# Altium footprint library MOLEX SDA-70555-6PIN.PCBLIB: 1 footprints
Each footprint in its own frame and in the unit in brackets; x right, y up, seen from the top. Pads: shape width x height; smd on the part's side, far side on the other; paste and mask are expansions set on the pad; w line width, h text height; cw(c..) or ccw(c..) is an arc to the next point about the centre after c.
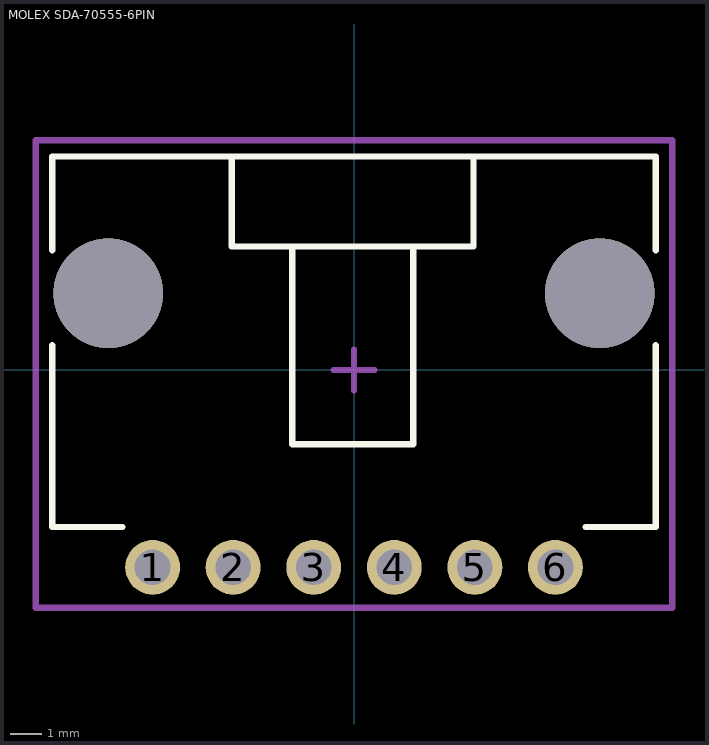
[diagram p0: the footprint, top view; thin cyan lines are the x and y axes]

## MOLEX SDA-70555-6PIN [mm] "SL Right Angle Header W/LAtch & Trip-Pegs 2.54mm Centres"
height 6.99
pads (6):
  round 1.73 hole 1.13: 1(-6.35,-6.223) 2(-3.81,-6.223) 3(-1.27,-6.223) 4(1.27,-6.223) 5(3.81,-6.223) 6(6.35,-6.223)
via 7.75,2.417 diameter 3.45 hole 3.45
via -7.75,2.417 diameter 3.45 hole 3.45
Top Overlay:
  lines w0.2: -9.51,0.777 -9.51,-4.953 -7.31,-4.953 ; -9.51,3.777 -9.51,6.731 9.51,6.731 9.51,3.777 ; -3.85,6.731 -3.85,3.892 3.77,3.892 3.77,6.731 ; -1.945,3.892 -1.945,-2.346 1.865,-2.346 1.865,3.892 ; 7.31,-4.953 9.51,-4.953 9.51,0.777
Mechanical 15:
  lines w0.2: -0.635,0 0.635,0 ; 0,-0.635 0,0.635 ; -10.033,-7.493 10.033,-7.493 10.033,7.239 -10.033,7.239 -10.033,-7.493
3D body "705550005.STEP": height 6.98, standoff -3.3, extent -9.525,-6.923 9.525,6.666